# Altium schematic symbol library 双驱.SchLib: 37 symbols
Pins are listed as number, name and electrical type; pins without a type are passive.

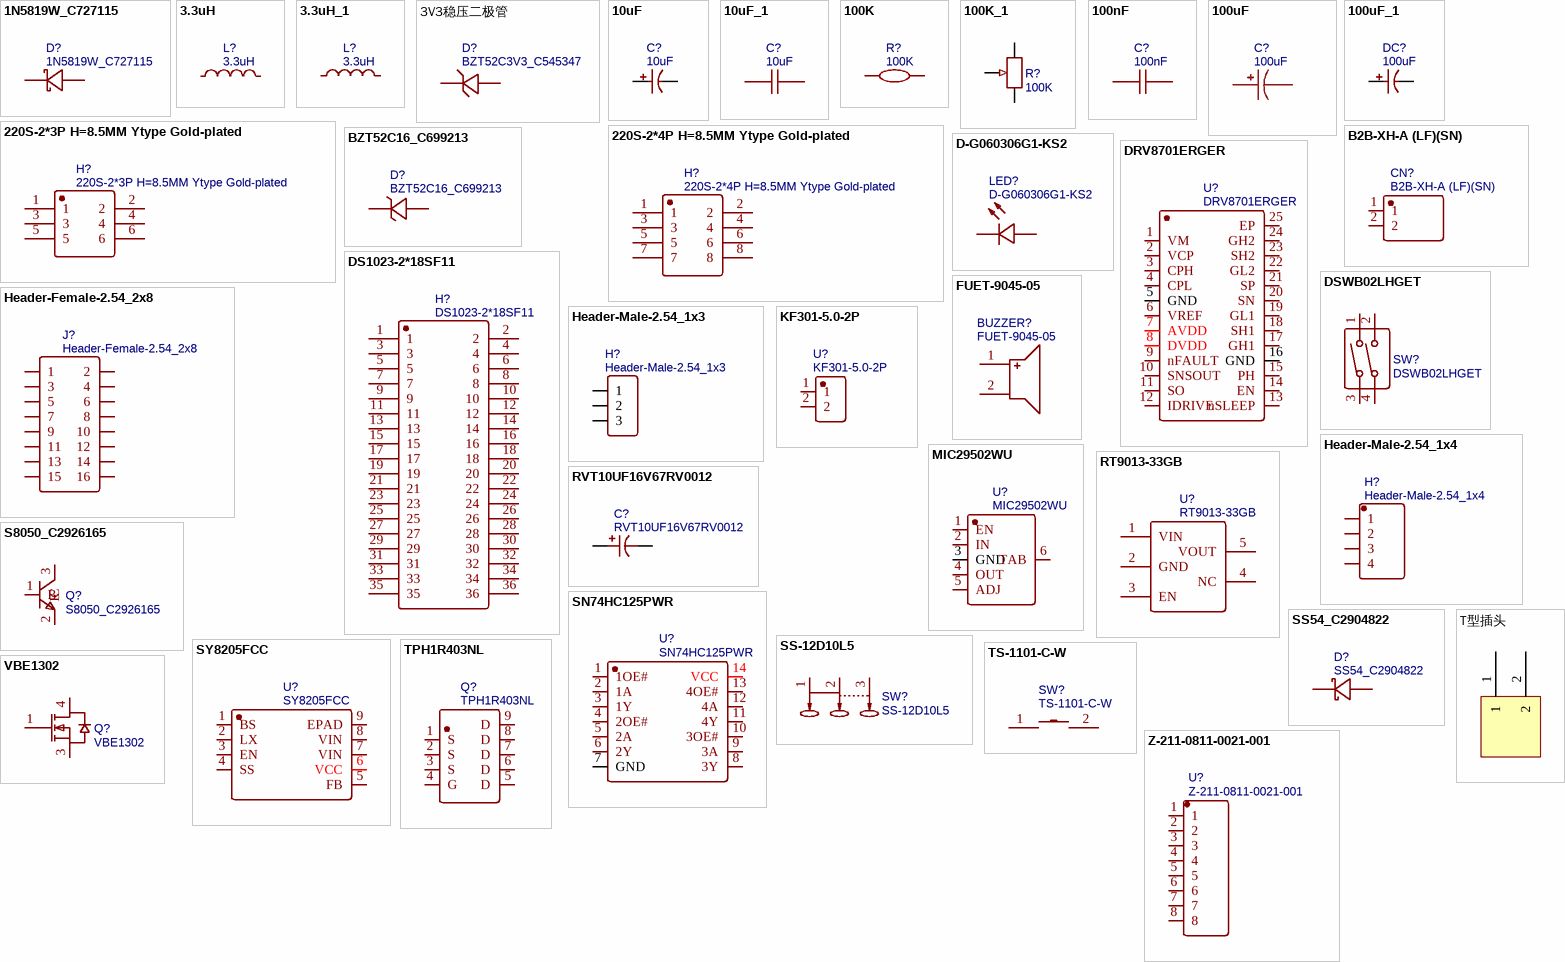
[diagram p0: symbols 1N5819W_C727115 to Z-211-0811-0021-001]

## 1N5819W_C727115
designator D?
BOM_Manufacturer: TWGMC; Contributor: LCSC; BOM_Supplier: LCSC; BOM_Supplier Part: C727115; BOM_Manufacturer Part: 1N5819W; BOM_JLCPCB Part Class: Extended Part; spicePre: D; spiceSymbolName: 1N5819W_C727115
footprint SOD-123_L2.8-W1.8-LS3.7-RD
pins: 1 C, 2 A

## 3.3uH
designator L?
BOM_Manufacturer: SXN; BOM_Manufacturer Part: SMDRI127-3R3MT; nameAlias: Inductance; BOM_Supplier: LCSC; BOM_Supplier Part: C24550; BOM_JLCPCB Part Class: Extended Part; spicePre: L; spiceSymbolName: SMDRI127-3R3MT
footprint IND-SMD_L12.3-W12.3_SMDRI127
pins: 1, 2

## 3.3uH_1
designator L?, comment 3.3uH
BOM_Manufacturer: DMBJ(振宝佳); BOM_Manufacturer Part: CD54-3R3M; nameAlias: Inductance; Contributor: LCSC; BOM_Supplier: LCSC; BOM_Supplier Part: C2826659; BOM_JLCPCB Part Class: Extended Part; spicePre: L; spiceSymbolName: CD54-3R3M
footprint IND-SMD_L5.8-W5.2
pins: 1, 2

## 3V3稳压二极管
designator D?, comment BZT52C3V3_C545347
BOM_Manufacturer: LGE; Contributor: LCSC; BOM_Supplier: LCSC; BOM_Supplier Part: C545347; BOM_Manufacturer Part: BZT52C3V3; BOM_JLCPCB Part Class: Extended Part; spicePre: D; spiceSymbolName: BZT52C3V3_C545347
footprint SOD-123_L2.7-W1.6-LS3.7-RD
pins: 1 C, 2 A

## 10uF
designator C?
BOM_Manufacturer: TANCAP Tech; BOM_Manufacturer Part: CA45-106K016AT; nameAlias: Capacitance; Contributor: LCSC; BOM_Supplier: LCSC; BOM_Supplier Part: C219747; BOM_JLCPCB Part Class: Extended Part; spicePre: C; spiceSymbolName: CA45-106K016AT
footprint CAP-SMD_L3.2-W1.6
pins: 1, 2

## 10uF_1
designator C?, comment 10uF
BOM_Manufacturer: SAMSUNG; BOM_Manufacturer Part: CL21B106KOQNNNE; nameAlias: Capacitance; BOM_Supplier: LCSC; BOM_Supplier Part: C95841; BOM_JLCPCB Part Class: Extended Part; spicePre: C; spiceSymbolName: CL21B106KOQNNNE
footprint C0805
pins: 1, 2

## 100K
designator R?
BOM_Manufacturer: YAGEO; BOM_Manufacturer Part: RC0603JR-07100KL; nameAlias: Resistance (Ohms); Contributor: LCSC; BOM_Supplier: LCSC; BOM_Supplier Part: C100048; BOM_JLCPCB Part Class: Extended Part; spicePre: R; spiceSymbolName: RC0603JR-07100KL
footprint R0603
pins: 1, 2

## 100K_1
designator R?, comment 100K
BOM_Manufacturer: Chengdu Guosheng Tech; BOM_Manufacturer Part: 3296W-1-104; nameAlias: Resistance (Ohms); Contributor: LCSC; BOM_Supplier: LCSC; BOM_Supplier Part: C118963; Resistance(Ohms): 100K; BOM_JLCPCB Part Class: Extended Part; spicePre: R; spiceSymbolName: 3296W-1-104
footprint RES-ADJ-TH_3P-L9.5-W4.9-P2.50-L_3296W
pins: 1, 2, 3

## 100nF
designator C?
BOM_Manufacturer: YAGEO; BOM_Manufacturer Part: CC0603KRX7R9BB104; nameAlias: Capacitance; BOM_Supplier: LCSC; BOM_Supplier Part: C14663; BOM_JLCPCB Part Class: Basic Part; spicePre: C; spiceSymbolName: CC0603KRX7R9BB104
footprint C0603
pins: 1, 2

## 100uF
designator C?
BOM_Manufacturer: Ymin; BOM_Manufacturer Part: VPXC0581E101MVTM; nameAlias: Capacitance; Contributor: LCSC; BOM_Supplier: LCSC; BOM_Supplier Part: C480063; BOM_JLCPCB Part Class: Extended Part; spicePre: C; spiceSymbolName: VPXC0581E101MVTM
footprint CAP-SMD_BD6.3-L6.6-W6.6-LS7.6-FD
pins: 1, 2

## 100uF_1
designator DC?, comment 100uF
BOM_Manufacturer: Nichicon; BOM_Manufacturer Part: UCD1V101MCL6GS; nameAlias: Capacitance; Contributor: LCSC; BOM_Supplier: LCSC; BOM_Supplier Part: C134220; BOM_JLCPCB Part Class: Extended Part; spicePre: C; spiceSymbolName: UCD1V101MCL6GS
footprint CAP-SMD_BD10.0-L10.3-W10.3-LS11.0-FD
pins: 1, 2

## 220S-2*3P H=8.5MM Ytype Gold-plated
designator H?
BOM_Manufacturer: Ckmtw; Contributor: LCSC; BOM_Supplier: LCSC; BOM_Manufacturer Part: 220S-2*3P H=8.5MM Ytype Gold-plated; BOM_Supplier Part: C124421; BOM_JLCPCB Part Class: Extended Part; spicePre: H; spiceSymbolName: 220S-2*3P H=8.5MM Ytype Gold-plated
footprint HDR-TH_6P-P2.54-V-F-R2-C3-S2.54
pins: 1, 2, 3, 4, 5, 6

## 220S-2*4P H=8.5MM Ytype Gold-plated
designator H?
BOM_Manufacturer: Ckmtw; Contributor: LCSC; BOM_Supplier: LCSC; BOM_Manufacturer Part: 220S-2*4P H=8.5MM Ytype Gold-plated; BOM_Supplier Part: C124422; BOM_JLCPCB Part Class: Extended Part; spicePre: H; spiceSymbolName: 220S-2*4P H=8.5MM Ytype Gold-plated
footprint HDR-TH_8P-P2.54-V-F-R2-C4-S2.54-1
pins: 1, 2, 3, 4, 5, 6, 7, 8

## B2B-XH-A (LF)(SN)
designator CN?
BOM_Manufacturer: JST Sales America; Contributor: LCSC; BOM_Supplier: LCSC; BOM_Supplier Part: C158012; BOM_Manufacturer Part: -; BOM_JLCPCB Part Class: Extended Part; spicePre: C; spiceSymbolName: B2B-XH-A (LF)(SN)
footprint CONN-TH_B2B-XH-A-LF-SN
pins: 1, 2

## BZT52C16_C699213
designator D?
BOM_Manufacturer: Yangzhou Yangjie Elec Tech; Contributor: LCSC; BOM_Supplier: LCSC; BOM_Supplier Part: C699213; BOM_Manufacturer Part: BZT52C16; BOM_JLCPCB Part Class: Extended Part; spicePre: D; spiceSymbolName: BZT52C16_C699213
footprint SOD-123_L2.7-W1.6-LS3.7-RD-1
pins: 1 C, 2 A

## D-G060306G1-KS2
designator LED?
BOM_Manufacturer: Wuxi ARK Tech Elec; Contributor: LCSC; BOM_Supplier: LCSC; BOM_Supplier Part: C118334; BOM_Manufacturer Part: D-G060306G1-KS2; BOM_JLCPCB Part Class: Extended Part; spicePre: L; spiceSymbolName: D-G060306G1-KS2
footprint LED0603-RD
pins: 1 -, 2 +

## DRV8701ERGER
designator U?
BOM_Manufacturer: Texas Instruments; Contributor: LCSC; BOM_Supplier: LCSC; BOM_Supplier Part: C90964; BOM_Manufacturer Part: DRV8701ERGER; BOM_JLCPCB Part Class: Extended Part; spicePre: U; spiceSymbolName: DRV8701ERGER
footprint VQFN-24_L4.0-W4.0-P0.50-BL-EP2.8
pins: 1 VM, 2 VCP, 3 CPH, 4 CPL, 5 GND, 6 VREF, 7 AVDD, 8 DVDD, 9 nFAULT, 10 SNSOUT, 11 SO, 12 IDRIVE, 13 nSLEEP, 14 EN, 15 PH, 16 GND, 17 GH1, 18 SH1, 19 GL1, 20 SN, 21 SP, 22 GL2, 23 SH2, 24 GH2, 25 EP

## DS1023-2*18SF11
designator H?
BOM_Manufacturer: CONNFLY; Contributor: LCSC; BOM_Supplier: LCSC; BOM_Manufacturer Part: DS1023-2*18SF11; BOM_Supplier Part: C132131; BOM_JLCPCB Part Class: Extended Part; spicePre: H; spiceSymbolName: DS1023-2*18SF11
footprint HDR-TH_36P-P2.54-V-F-R2-C18-S2.54-1
pins: 1, 2, 3, 4, 5, 6, 7, 8, 9, 10, 11, 12, 13, 14, 15, 16, 17, 18, 19, 20, 21, 22, 23, 24, 25, 26, 27, 28, 29, 30, 31, 32, 33, 34, 35, 36

## DSWB02LHGET
designator SW?
BOM_Manufacturer: Dongguan Guangzhu Industrial; Contributor: LCSC; BOM_Supplier: LCSC; BOM_Supplier Part: C99421; BOM_Manufacturer Part: -; BOM_JLCPCB Part Class: Extended Part; spicePre: S; spiceSymbolName: DSWB02LHGET
footprint SW-TH_DSWB02LHGET
pins: 1, 2, 3, 4

## FUET-9045-05
designator BUZZER?
BOM_Manufacturer: FUET(福声科技); Contributor: LCSC; BOM_Supplier: LCSC; BOM_Supplier Part: C2690511; BOM_Manufacturer Part: FUET-9045-05; BOM_JLCPCB Part Class: Extended Part; spicePre: B; spiceSymbolName: FUET-9045-05
footprint BUZ-SMD_BD9.0_FUET-9045-05
pins: 1, 2

## Header-Female-2.54_2x8
designator J?
BOM_Manufacturer: BOOMELE; BOM_Manufacturer Part: 2.54mm,2×8Double female header; BOM_Supplier: LCSC; BOM_Supplier Part: C30734; BOM_JLCPCB Part Class: Extended Part; spicePre: J; spiceSymbolName: Header-Female-2.54_2x8
footprint HDR-TH_16P-P2.54-V-F-R2-C8-S2.54-1
pins: 1, 2, 3, 4, 5, 6, 7, 8, 9, 10, 11, 12, 13, 14, 15, 16

## Header-Male-2.54_1x3
designator H?
BOM_Manufacturer: BOOMELE; BOM_Manufacturer Part: Header2.54mm 1*3P; BOM_Supplier: LCSC; BOM_Supplier Part: C49257; BOM_JLCPCB Part Class: Extended Part; spicePre: H; spiceSymbolName: Header-Male-2.54_1x3
footprint HDR-TH_3P-P2.54-V-M-1
pins: 1, 2, 3

## Header-Male-2.54_1x4
designator H?
BOM_Manufacturer: Ckmtw; BOM_Manufacturer Part: 210S-1*4P L=11.6MMGold-plated black; Contributor: LCSC; BOM_Supplier: LCSC; BOM_Supplier Part: C124378; BOM_JLCPCB Part Class: Extended Part; spicePre: H; spiceSymbolName: Header-Male-2.54_1x4
footprint HDR-TH_4P-P2.54-V-M
pins: 1, 2, 3, 4

## KF301-5.0-2P
designator U?
BOM_Manufacturer: Cixi Kefa Elec; Contributor: LCSC; BOM_Supplier: LCSC; BOM_Supplier Part: C474881; BOM_Manufacturer Part: KF301-5.0-2P; BOM_JLCPCB Part Class: Extended Part; spicePre: U; spiceSymbolName: KF301-5.0-2P
footprint CONN-TH_P5.00_KF301-5.0-2P
pins: 1, 2

## MIC29502WU
designator U?
BOM_Manufacturer: MICROCHIP(美国微芯); Contributor: LCSC; BOM_Supplier: LCSC; BOM_Supplier Part: C641271; BOM_Manufacturer Part: MIC29502WU; BOM_JLCPCB Part Class: Extended Part; spicePre: U; spiceSymbolName: MIC29502WU
footprint TO-263-5_L10.2-W8.9-P1.70-TL-1
pins: 1 EN, 2 IN, 3 GND, 4 OUT, 5 ADJ, 6 TAB

## RT9013-33GB
designator U?
BOM_Manufacturer: RICHTEK; BOM_Supplier: LCSC; BOM_Manufacturer Part: RT9013-33GB; BOM_Supplier Part: C47773; BOM_JLCPCB Part Class: Extended Part; spicePre: U; spiceSymbolName: RT9013-33GB
footprint SOT-23-5_L3.0-W1.7-P0.95-LS2.8-BR
pins: 1 VIN, 2 GND, 3 EN, 4 NC, 5 VOUT

## RVT10UF16V67RV0012
designator C?
BOM_Manufacturer: KNSCHA(科尼盛); Contributor: LCSC; BOM_Supplier: LCSC; BOM_Supplier Part: C2895275; BOM_Manufacturer Part: RVT10UF16V67RV0012; spicePre: C; spiceSymbolName: RVT10UF16V67RV0012
footprint CAP-SMD_BD4.0-L4.3-W4.3-LS5.0-FD
pins: 1, 2

## S8050_C2926165
designator Q?
BOM_Manufacturer: FOSAN(富信); BOM_Manufacturer Part: S8050; Contributor: LCSC; BOM_Supplier: LCSC; BOM_Supplier Part: C2926165; BOM_JLCPCB Part Class: Extended Part; spicePre: Q; spiceSymbolName: S8050_C2926165
footprint SOT-23-3_L2.9-W1.3-P1.90-LS2.4-BR
pins: 1 B, 2 E, 3 C

## SN74HC125PWR
designator U?
BOM_Manufacturer: Texas Instruments; Contributor: LCSC; BOM_Supplier: LCSC; BOM_Supplier Part: C132994; BOM_Manufacturer Part: SN74HC125PWR; BOM_JLCPCB Part Class: Extended Part; spicePre: U; spiceSymbolName: SN74HC125PWR
footprint TSSOP-14_L5.0-W4.4-P0.65-LS6.5-BL
pins: 1 1OE#, 2 1A, 3 1Y, 4 2OE#, 5 2A, 6 2Y, 7 GND, 8 3Y, 9 3A, 10 3OE#, 11 4Y, 12 4A, 13 4OE#, 14 VCC

## SS54_C2904822
designator D?
BOM_Manufacturer: YONGYUTAI(永裕泰); BOM_Manufacturer Part: SS54; Contributor: LCSC; BOM_Supplier: LCSC; BOM_Supplier Part: C2904822; spicePre: D; spiceSymbolName: SS54_C2904822
footprint SMB_L4.3-W3.6-LS5.4-RD
pins: 1 K, 2 A

## SS-12D10L5
designator SW?
BOM_Manufacturer: XKB Enterprise; Contributor: LCSC; BOM_Supplier: LCSC; BOM_Supplier Part: C319012; BOM_Manufacturer Part: SS-12D10L5; BOM_JLCPCB Part Class: Extended Part; spicePre: S; spiceSymbolName: SS-12D10L5
footprint SW-TH_SS-12D10L5
pins: 1, 2, 3

## SY8205FCC
designator U?
BOM_Manufacturer: Silergy Corp; Contributor: LCSC; BOM_Supplier: LCSC; BOM_Supplier Part: C111875; BOM_Manufacturer Part: SY8205FCC; BOM_JLCPCB Part Class: Extended Part; spicePre: U; spiceSymbolName: SY8205FCC
footprint SOIC-8_L5.0-W4.0-P1.27-LS6.0-BL-EP2.0
pins: 1 BS, 2 LX, 3 EN, 4 SS, 5 FB, 6 VCC, 7 VIN, 8 VIN, 9 EPAD

## TPH1R403NL
designator Q?
BOM_Manufacturer: TOSHIBA; BOM_Supplier: LCSC; BOM_Manufacturer Part: TPH1R403NL; BOM_Supplier Part: C83440; BOM_JLCPCB Part Class: Extended Part; spicePre: Q; spiceSymbolName: TPH1R403NL
footprint DSOP-8_L5.0-W5.0-P1.27-EP-TL
pins: 1 S, 2 S, 3 S, 4 G, 5 D, 6 D, 7 D, 8 D, 9 D

## TS-1101-C-W
designator SW?
BOM_Manufacturer: XKB Connectivity(中国星坤); Contributor: LCSC; BOM_Supplier: LCSC; BOM_Supplier Part: C318938; BOM_Manufacturer Part: TS-1101-C-W; BOM_JLCPCB Part Class: Extended Part; spicePre: S; spiceSymbolName: TS-1101-C-W
footprint SW-SMD_L6.0-W3.3-LS8.0
pins: 1, 2

## T型插头
designator 1, comment 1  (value not drawn)
footprint T型插头
pins: 1, 2

## VBE1302
designator Q?
BOM_Manufacturer: VBsemi(台湾微碧); Contributor: LCSC; BOM_Supplier: LCSC; BOM_Supplier Part: C480950; BOM_Manufacturer Part: VBE1302; BOM_JLCPCB Part Class: Extended Part; spicePre: Q; spiceSymbolName: VBE1302
footprint TO-252-2_L6.5-W6.1-P4.58-LS10.0-BR
pins: 1 G, 3 S, 4 D

## Z-211-0811-0021-001
designator U?
BOM_Manufacturer: Nextronics Engineering; Contributor: LCSC; BOM_Supplier: LCSC; BOM_Supplier Part: C190820; BOM_Manufacturer Part: Z-211-0811-0021-001; BOM_JLCPCB Part Class: Extended Part; spicePre: U; spiceSymbolName: Z-211-0811-0021-001
footprint HDR-TH_8P-P2.54-V-M
pins: 1, 2, 3, 4, 5, 6, 7, 8